# Altium footprint library Misc.SMD.PcbLib: 88 footprints (part 3 of 6)
Each footprint in its own frame and in the unit in brackets; x right, y up, seen from the top. Pads: shape width x height; smd on the part's side, far side on the other; paste and mask are expansions set on the pad; w line width, h text height; cw(c..) or ccw(c..) is an arc to the next point about the centre after c.
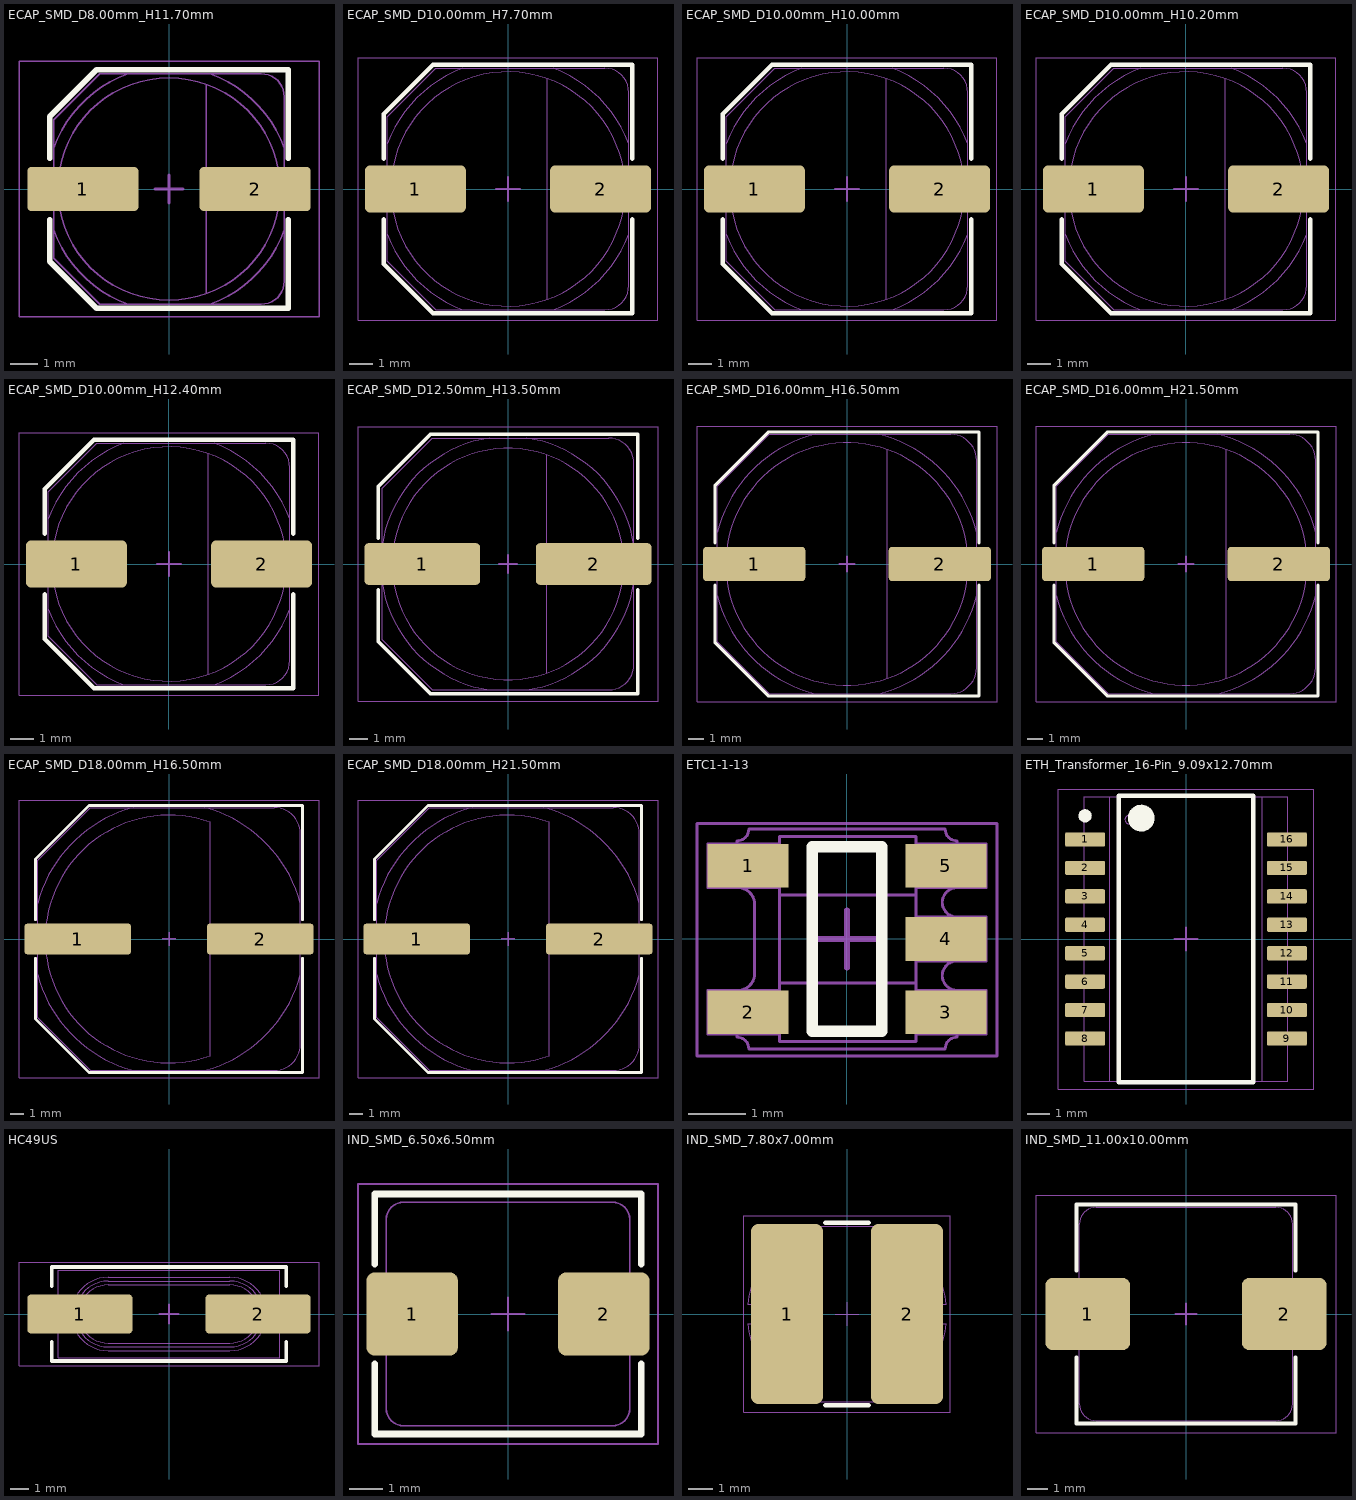
[diagram p2: the footprints below, top view; thin cyan lines are the x and y axes]

## ECAP_SMD_D8.00mm_H11.70mm [mm] "SMD Electrolytic Capacitor, 8.00mm Diameter, 11.70mm Height"
height 11.7
pads (2):
  rrect20% 4x1.6 smd: 1(-3.1,0) 2(3.1,0)
Top Overlay:
  lines w0.2: -4.3,-1.1 -4.3,-2.6 -2.6,-4.3 4.3,-4.3 4.3,-1.1 ; -4.3,1.1 -4.3,2.6 -2.6,4.3 4.3,4.3 4.3,1.1
Mechanical 1:
  circle w0.05: c0,0 r4
  lines w0.05: -4.15,-1.462 ccw(c0,0) -1.462,-4.15 ; -4.15,-0.475 -4.45,-0.475 -4.45,0.475 -4.15,0.475 ; -4.15,1.462 cw(c0,0) -1.462,4.15 ; 1.333,-3.771 1.333,-3.344 1.333,3.344 1.333,3.771 ; 1.462,-4.15 ccw(c0,0) 4.15,-1.462 ; 1.462,4.15 cw(c0,0) 4.15,1.462 ; 4.15,-0.475 4.45,-0.475 4.45,0.475 4.15,0.475 ; -4.15,-2.49 -2.49,-4.15 3.32,-4.15 ccw(c3.32,-3.32) 4.15,-3.32 4.15,3.32 ccw(c3.32,3.32) 3.32,4.15 -2.49,4.15 -4.15,2.49 -4.15,-2.49
Mechanical 15:
  lines w0.05: -5.4,-4.6 5.4,-4.6 5.4,4.6 -5.4,4.6 -5.4,-4.6
  lines w0.1: -0.5,0 0.5,0 ; 0,-0.5 0,0.5
3D body "CP_SMD_Radial_D8.00mm_H11.70mm.STEP": height 11.7, standoff 0, extent -4.45,-4.15 4.45,4.15

## ECAP_SMD_D10.00mm_H7.70mm [mm] "SMD Electrolytic Capacitor, 10.00mm Diameter, 7.70mm Height"
height 7.7
pads (2):
  rrect20% 4.3x2 smd: 1(-3.95,0) 2(3.95,0)
Top Overlay:
  lines w0.2: -5.3,-1.3 -5.3,-3.2 -3.2,-5.3 5.3,-5.3 5.3,-1.3 ; -5.3,1.3 -5.3,3.2 -3.2,5.3 5.3,5.3 5.3,1.3
Mechanical 1:
  circle w0.05: c0,0 r5
  lines w0.05: -5.15,-1.931 ccw(c0,0) -1.931,-5.15 ; -5.15,-0.475 -5.45,-0.475 -5.45,0.475 -5.15,0.475 ; -5.15,1.931 cw(c0,0) -1.931,5.15 ; 1.667,-4.714 1.667,-4.18 1.667,4.18 1.667,4.714 ; 1.931,-5.15 ccw(c0,0) 5.15,-1.931 ; 1.931,5.15 cw(c0,0) 5.15,1.931 ; 5.15,-0.475 5.45,-0.475 5.45,0.475 5.15,0.475 ; -5.15,-3.09 -5.15,3.09 -3.09,5.15 4.12,5.15 cw(c4.12,4.12) 5.15,4.12 5.15,-4.12 cw(c4.12,-4.12) 4.12,-5.15 -3.09,-5.15 -5.15,-3.09
Mechanical 15:
  lines w0.05: -6.4,-5.6 6.4,-5.6 6.4,5.6 -6.4,5.6 -6.4,-5.6
  lines w0.1: -0.5,0 0.5,0 ; 0,-0.5 0,0.5
3D body "CP_SMD_Radial_D10.00mm_H7.70mm.STEP": height 7.7, standoff 0, extent -5.45,-5.15 5.45,5.15

## ECAP_SMD_D10.00mm_H10.00mm [mm] "SMD Electrolytic Capacitor, 10.00mm Diameter, 10.00mm Height"
height 10
pads (2):
  rrect20% 4.3x2 smd: 1(-3.95,0) 2(3.95,0)
Top Overlay:
  lines w0.2: -5.3,-1.3 -5.3,-3.2 -3.2,-5.3 5.3,-5.3 5.3,-1.3 ; -5.3,1.3 -5.3,3.2 -3.2,5.3 5.3,5.3 5.3,1.3
Mechanical 1:
  circle w0.05: c0,0 r5
  lines w0.05: -5.15,-1.931 ccw(c0,0) -1.931,-5.15 ; -5.15,-0.475 -5.45,-0.475 -5.45,0.475 -5.15,0.475 ; -5.15,1.931 cw(c0,0) -1.931,5.15 ; 1.667,-4.714 1.667,-4.18 1.667,4.18 1.667,4.714 ; 1.931,-5.15 ccw(c0,0) 5.15,-1.931 ; 1.931,5.15 cw(c0,0) 5.15,1.931 ; 5.15,-0.475 5.45,-0.475 5.45,0.475 5.15,0.475 ; -5.15,-3.09 -5.15,3.09 -3.09,5.15 4.12,5.15 cw(c4.12,4.12) 5.15,4.12 5.15,-4.12 cw(c4.12,-4.12) 4.12,-5.15 -3.09,-5.15 -5.15,-3.09
Mechanical 15:
  lines w0.05: -6.4,-5.6 6.4,-5.6 6.4,5.6 -6.4,5.6 -6.4,-5.6
  lines w0.1: -0.5,0 0.5,0 ; 0,-0.5 0,0.5
3D body "CP_SMD_Radial_D10.00mm_H10.00mm.STEP": height 10, standoff 0, extent -5.45,-5.15 5.45,5.15

## ECAP_SMD_D10.00mm_H10.20mm [mm] "SMD Electrolytic Capacitor, 10.00mm Diameter, 10.20mm Height"
height 10.2
pads (2):
  rrect20% 4.3x2 smd: 1(-3.95,0) 2(3.95,0)
Top Overlay:
  lines w0.2: -5.3,-1.3 -5.3,-3.2 -3.2,-5.3 5.3,-5.3 5.3,-1.3 ; -5.3,1.3 -5.3,3.2 -3.2,5.3 5.3,5.3 5.3,1.3
Mechanical 1:
  circle w0.05: c0,0 r5
  lines w0.05: -5.15,-1.931 ccw(c0,0) -1.931,-5.15 ; -5.15,-0.475 -5.45,-0.475 -5.45,0.475 -5.15,0.475 ; -5.15,1.931 cw(c0,0) -1.931,5.15 ; 1.667,-4.714 1.667,-4.18 1.667,4.18 1.667,4.714 ; 1.931,-5.15 ccw(c0,0) 5.15,-1.931 ; 1.931,5.15 cw(c0,0) 5.15,1.931 ; 5.15,-0.475 5.45,-0.475 5.45,0.475 5.15,0.475 ; -5.15,-3.09 -3.09,-5.15 4.12,-5.15 ccw(c4.12,-4.12) 5.15,-4.12 5.15,4.12 ccw(c4.12,4.12) 4.12,5.15 -3.09,5.15 -5.15,3.09 -5.15,-3.09
Mechanical 15:
  lines w0.05: -6.4,-5.6 -6.4,5.6 6.4,5.6 6.4,-5.6 -6.4,-5.6
  lines w0.1: -0.5,0 0.5,0 ; 0,-0.5 0,0.5
3D body "CP_SMD_Radial_D10.00mm_H10.00mm.STEP": height 10, standoff 0, extent -5.45,-5.15 5.45,5.15

## ECAP_SMD_D10.00mm_H12.40mm [mm] "SMD Electrolytic Capacitor, 10.00mm Diameter, 12.40mm Height"
height 12.4
pads (2):
  rrect20% 4.3x2 smd: 1(-3.95,0) 2(3.95,0)
Top Overlay:
  lines w0.2: -5.3,-1.3 -5.3,-3.2 -3.2,-5.3 5.3,-5.3 5.3,-1.3 ; -5.3,1.3 -5.3,3.2 -3.2,5.3 5.3,5.3 5.3,1.3
Mechanical 1:
  circle w0.05: c0,0 r5
  lines w0.05: -5.15,-1.931 ccw(c0,0) -1.931,-5.15 ; -5.15,-0.475 -5.45,-0.475 -5.45,0.475 -5.15,0.475 ; -5.15,1.931 cw(c0,0) -1.931,5.15 ; 1.667,-4.714 1.667,-4.18 1.667,4.18 1.667,4.714 ; 1.931,-5.15 ccw(c0,0) 5.15,-1.931 ; 1.931,5.15 cw(c0,0) 5.15,1.931 ; 5.15,-0.475 5.45,-0.475 5.45,0.475 5.15,0.475 ; -5.15,-3.09 -5.15,3.09 -3.09,5.15 4.12,5.15 cw(c4.12,4.12) 5.15,4.12 5.15,-4.12 cw(c4.12,-4.12) 4.12,-5.15 -3.09,-5.15 -5.15,-3.09
Mechanical 15:
  lines w0.05: -6.4,-5.6 6.4,-5.6 6.4,5.6 -6.4,5.6 -6.4,-5.6
  lines w0.1: -0.5,0 0.5,0 ; 0,-0.5 0,0.5
3D body "CP_SMD_Radial_D10.00mm_H12.40mm.STEP": height 12.4, standoff 0, extent -5.45,-5.15 5.45,5.15

## ECAP_SMD_D12.50mm_H13.50mm [mm] "SMD Electrolytic Capacitor, 12.50mm Diameter, 13.50mm Height"
height 13.5
pads (2):
  rrect20% 6.25x2.25 smd: 1(-4.625,0) 2(4.625,0)
Top Overlay:
  lines w0.2: -7,-1.4 -7,-4.2 -4.2,-7 7,-7 7,-1.4 ; -7,1.4 -7,4.2 -4.2,7 7,7 7,1.4
Mechanical 1:
  circle w0.05: c0,0 r6.25
  lines w0.05: -6.8,-1.013 ccw(c0,0) -1.013,-6.8 ; -6.8,-0.6 -7.1,-0.6 -7.1,0.6 -6.8,0.6 ; -6.8,1.013 cw(c0,0) -1.013,6.8 ; 1.013,-6.8 ccw(c0,0) 6.8,-1.013 ; 1.013,6.8 cw(c0,0) 6.8,1.013 ; 2.083,-5.893 2.083,-5.225 2.083,5.225 2.083,5.893 ; 6.8,-0.6 7.1,-0.6 7.1,0.6 6.8,0.6 ; -6.8,-4.08 -4.08,-6.8 5.44,-6.8 ccw(c5.44,-5.44) 6.8,-5.44 6.8,5.44 ccw(c5.44,5.44) 5.44,6.8 -4.08,6.8 -6.8,4.08 -6.8,-4.08
Mechanical 15:
  lines w0.05: -8.1,-7.4 8.1,-7.4 8.1,7.4 -8.1,7.4 -8.1,-7.4
  lines w0.1: -0.5,0 0.5,0 ; 0,-0.5 0,0.5
3D body "CP_SMD_Radial_D12.50mm_H13.50mm.STEP": height 13.5, standoff 0, extent -7.1,-6.8 7.1,6.8

## ECAP_SMD_D16.00mm_H16.50mm [mm] "SMD Electrolytic Capacitor, 16.00mm Diameter, 16.50mm Height"
height 16.5
pads (2):
  rrect20% 6.75x2.25 smd: 1(-6.125,0) 2(6.125,0)
Top Overlay:
  lines w0.2: -8.7,-1.4 -8.7,-5.2 -5.2,-8.7 8.7,-8.7 8.7,-1.4 ; -8.7,1.4 -8.7,5.2 -5.2,8.7 8.7,8.7 8.7,1.4
Mechanical 1:
  circle w0.05: c0,0 r8
  lines w0.05: -8.55,-2.083 ccw(c0,0) -2.083,-8.55 ; -8.55,-0.6 -8.85,-0.6 -8.85,0.6 -8.55,0.6 ; -8.55,2.083 cw(c0,0) -2.083,8.55 ; 2.083,-8.55 ccw(c0,0) 8.55,-2.083 ; 2.083,8.55 cw(c0,0) 8.55,2.083 ; 2.667,-7.542 2.667,-6.688 2.667,6.688 2.667,7.542 ; 8.55,-0.6 8.85,-0.6 8.85,0.6 8.55,0.6 ; -8.55,-5.13 -5.13,-8.55 6.84,-8.55 ccw(c6.84,-6.84) 8.55,-6.84 8.55,6.84 ccw(c6.84,6.84) 6.84,8.55 -5.13,8.55 -8.55,5.13 -8.55,-5.13
Mechanical 15:
  lines w0.05: -9.9,-9.1 9.9,-9.1 9.9,9.1 -9.9,9.1 -9.9,-9.1
  lines w0.1: -0.5,0 0.5,0 ; 0,-0.5 0,0.5
3D body "CP_SMD_Radial_D16.00mm_H16.50mm.STEP": height 16.5, standoff 0, extent -8.85,-8.55 8.85,8.55

## ECAP_SMD_D16.00mm_H21.50mm [mm] "SMD Electrolytic Capacitor, 16.00mm Diameter, 21.50mm Height"
height 21.5
pads (2):
  rrect20% 6.75x2.25 smd: 1(-6.125,0) 2(6.125,0)
Top Overlay:
  lines w0.2: -8.7,-1.4 -8.7,-5.2 -5.2,-8.7 8.7,-8.7 8.7,-1.4 ; -8.7,1.4 -8.7,5.2 -5.2,8.7 8.7,8.7 8.7,1.4
Mechanical 1:
  circle w0.05: c0,0 r8
  lines w0.05: -8.55,-2.083 ccw(c0,0) -2.083,-8.55 ; -8.55,-0.6 -8.85,-0.6 -8.85,0.6 -8.55,0.6 ; -8.55,2.083 cw(c0,0) -2.083,8.55 ; 2.083,-8.55 ccw(c0,0) 8.55,-2.083 ; 2.083,8.55 cw(c0,0) 8.55,2.083 ; 2.667,-7.542 2.667,-6.688 2.667,6.688 2.667,7.542 ; 8.55,-0.6 8.85,-0.6 8.85,0.6 8.55,0.6 ; -8.55,-5.13 -8.55,5.13 -5.13,8.55 6.84,8.55 cw(c6.84,6.84) 8.55,6.84 8.55,-6.84 cw(c6.84,-6.84) 6.84,-8.55 -5.13,-8.55 -8.55,-5.13
Mechanical 15:
  lines w0.05: -9.9,-9.1 -9.9,9.1 9.9,9.1 9.9,-9.1 -9.9,-9.1
  lines w0.1: -0.5,0 0.5,0 ; 0,-0.5 0,0.5
3D body "CP_SMD_Radial_D16.00mm_H21.50mm.STEP": height 21.5, standoff 0, extent -8.85,-8.55 8.85,8.55

## ECAP_SMD_D18.00mm_H16.50mm [mm] "SMD Electrolytic Capacitor, 18.00mm Diameter, 16.50mm Height"
height 16.5
pads (2):
  rrect20% 7.75x2.25 smd: 1(-6.625,0) 2(6.625,0)
Top Overlay:
  lines w0.2: -9.7,-1.4 -9.7,-5.8 -5.8,-9.7 9.7,-9.7 9.7,-1.4 ; -9.7,1.4 -9.7,5.8 -5.8,9.7 9.7,9.7 9.7,1.4
Mechanical 1:
  lines w0.05: -9.55,-2.609 ccw(c0,0) -2.609,-9.55 ; -9.55,-0.6 -9.85,-0.6 -9.85,0.6 -9.55,0.6 ; -9.55,2.609 cw(c0,0) -2.609,9.55 ; 2.609,-9.55 ccw(c0,0) 9.55,-2.609 ; 2.609,9.55 cw(c0,0) 9.55,2.609 ; 9.55,-0.6 9.85,-0.6 9.85,0.6 9.55,0.6 ; -9.55,-5.73 -5.73,-9.55 7.64,-9.55 ccw(c7.64,-7.64) 9.55,-7.64 9.55,7.64 ccw(c7.64,7.64) 7.64,9.55 -5.73,9.55 -9.55,5.73 -9.55,-5.73 ; 3,-8.485 cw(c0,0) 3,8.485 3,7.524 3,-7.524 3,-8.485
Mechanical 15:
  lines w0.05: -10.9,-10.1 -10.9,10.1 10.9,10.1 10.9,-10.1 -10.9,-10.1
  lines w0.1: -0.5,0 0.5,0 ; 0,-0.5 0,0.5
3D body "CP_SMD_Radial_D18.00mm_H16.50mm.STEP": height 16.5, standoff 0, extent -9.85,-9.55 9.85,9.55

## ECAP_SMD_D18.00mm_H21.50mm [mm] "SMD Electrolytic Capacitor, 18.00mm Diameter, 21.50mm Height"
height 21.5
pads (2):
  rrect20% 7.75x2.25 smd: 1(-6.625,0) 2(6.625,0)
Top Overlay:
  lines w0.2: -9.7,-1.4 -9.7,-5.8 -5.8,-9.7 9.7,-9.7 9.7,-1.4 ; -9.7,1.4 -9.7,5.8 -5.8,9.7 9.7,9.7 9.7,1.4
Mechanical 1:
  lines w0.05: -9.55,-2.609 ccw(c0,0) -2.609,-9.55 ; -9.55,-0.6 -9.85,-0.6 -9.85,0.6 -9.55,0.6 ; -9.55,2.609 cw(c0,0) -2.609,9.55 ; 2.609,-9.55 ccw(c0,0) 9.55,-2.609 ; 2.609,9.55 cw(c0,0) 9.55,2.609 ; 9.55,-0.6 9.85,-0.6 9.85,0.6 9.55,0.6 ; -9.55,-5.73 -5.73,-9.55 7.64,-9.55 ccw(c7.64,-7.64) 9.55,-7.64 9.55,7.64 ccw(c7.64,7.64) 7.64,9.55 -5.73,9.55 -9.55,5.73 -9.55,-5.73 ; 3,-8.485 cw(c0,0) 3,8.485 3,7.524 3,-7.524 3,-8.485
Mechanical 15:
  lines w0.05: -10.9,-10.1 -10.9,10.1 10.9,10.1 10.9,-10.1 -10.9,-10.1
  lines w0.1: -0.5,0 0.5,0 ; 0,-0.5 0,0.5
3D body "CP_SMD_Radial_D18.00mm_H21.50mm.STEP": height 21.5, standoff 0, extent -9.85,-9.55 9.85,9.55

## ETC1-1-13 [mm] "ETC1 Series Package, 3.94x3.83mm, 5 Leads"
height 2.75
pads (5):
  rect 1.4x0.76 smd: 1(-1.715,1.27) 2(-1.715,-1.27) 3(1.715,-1.27) 4(1.715,0) 5(1.715,1.27)
Top Overlay:
  lines w0.2: -0.6,-1.6 -0.6,1.6 0.6,1.6 0.6,-1.6 -0.6,-1.6
Mechanical 1:
  lines w0.05: -2.081,-1.651 -2.081,-0.889 ; -2.081,0.889 -2.081,1.651 ; -1.954,-1.651 -1.954,-0.889 ; -1.954,0.889 -1.954,1.651 ; -1.905,-1.651 -2.413,-1.651 -2.413,-0.889 -1.168,-0.889 ; -1.905,1.651 -2.413,1.651 -2.413,0.889 -1.168,0.889 ; -1.88,-0.889 ccw(c-1.893,-0.594) -1.6,-0.635 -1.6,0.635 ccw(c-1.893,0.594) -1.88,0.889 ; -1.809,-1.651 -1.809,-0.889 ; -1.809,0.889 -1.809,1.651 ; -1.168,-1.651 -1.904,-1.651 -1.904,-0.889 -1.905,-0.889 -1.905,-1.702 cw(c-1.905,-1.905) -1.702,-1.905 1.702,-1.905 cw(c1.905,-1.905) 1.905,-1.702 1.905,-0.889 ; -1.168,-0.762 1.194,-0.762 ; -1.168,0.762 1.194,0.762 ; -1.168,1.651 -1.904,1.651 -1.904,0.889 -1.905,0.889 -1.905,1.702 ccw(c-1.905,1.905) -1.702,1.905 1.702,1.905 ccw(c1.905,1.905) 1.905,1.702 1.905,0.889 ; 1.194,-1.651 1.904,-1.651 1.904,-0.889 cw(c1.905,-0.635) 1.904,-0.381 1.904,0.381 cw(c1.905,0.635) 1.904,0.889 1.904,1.651 1.194,1.651 ; 1.194,-0.889 2.413,-0.889 2.413,-1.651 1.905,-1.651 ; 1.194,-0.381 2.413,-0.381 2.413,0.381 1.194,0.381 ; 1.194,0.889 2.413,0.889 2.413,1.651 1.905,1.651 ; 1.809,-1.651 1.809,-0.889 ; 1.809,-0.381 1.809,0.381 ; 1.809,0.889 1.809,1.651 ; 1.905,-0.381 1.905,0.381 ; 1.954,-1.651 1.954,-0.889 ; 1.954,-0.381 1.954,0.381 ; 1.954,0.889 1.954,1.651 ; 2.081,-1.651 2.081,-0.889 ; 2.081,-0.381 2.081,0.381 ; 2.081,0.889 2.081,1.651 ; -1.168,-1.778 -1.168,1.778 1.194,1.778 1.194,-1.778 -1.168,-1.778
Mechanical 15:
  lines w0.05: -2.6,-2.025 -2.6,2 2.6,2 2.6,-2.025 -2.6,-2.025
  lines w0.1: -0.5,0 0.5,0 ; 0,-0.5 0,0.5
3D body "ETC1-1-13.step": height 2.6, standoff 0, extent -2.413,-1.905 2.413,1.905

## ETH_Transformer_16-Pin_9.09x12.70mm [mil] "Ethenet Line Transformer, 9.09x12.70mm Package, 1.27mm Pitch, 16-Pin"
height 235.83
pads (17):
  rrect20% 70x25 smd: 1(-177.5,175) 2(-177.5,125) 3(-177.5,75) 4(-177.5,25) 5(-177.5,-25) 6(-177.5,-75) 7(-177.5,-125) 8(-177.5,-175) 9(177.5,-175) 10(177.5,-125) 11(177.5,-75) 12(177.5,-25) 13(177.5,25) 14(177.5,75) 15(177.5,125) 16(177.5,175)
  round 23.62 on Top Overlay: ""(-177.5,216.54)
Top Overlay:
  circle w7.87: c-78.74,212.6 r19.69
  region: -78.74,192.91 -82.66,192.91 -89.89,195.91 -95.43,201.45 -98.43,208.68 -98.43,212.6 -98.43,216.51 -95.43,223.75 -89.89,229.29 -82.66,232.28 -78.74,232.28 -74.82,232.28 -67.59,229.29 -62.05,223.75 -59.06,216.51 -59.06,212.6 -59.06,208.68 -62.05,201.45 -67.59,195.91 -74.82,192.91
  lines w7.87: -118.11,-251.97 118.11,-251.97 118.11,251.97 -118.11,251.97 -118.11,-251.97
Mechanical 1:
  circle w1.97: c-100,210 r7.5
  lines w1.97: -179,-181 -190,-181 -190,-169 -179,-169 ; -179,-131 -190,-131 -190,-119 -179,-119 ; -179,-81 -190,-81 -190,-69 -179,-69 ; -179,-31 -190,-31 -190,-19 -179,-19 ; -179,19 -190,19 -190,31 -179,31 ; -179,69 -190,69 -190,81 -179,81 ; -179,119 -190,119 -190,131 -179,131 ; -179,169 -190,169 -190,181 -179,181 ; -134,-250 -134,250 ; 134,-250 134,250 ; 179,-181 190,-181 190,-169 179,-169 ; 179,-131 190,-131 190,-119 179,-119 ; 179,-81 190,-81 190,-69 179,-69 ; 179,-31 190,-31 190,-19 179,-19 ; 179,19 190,19 190,31 179,31 ; 179,69 190,69 190,81 179,81 ; 179,119 190,119 190,131 179,131 ; 179,169 190,169 190,181 179,181 ; -179,-250 179,-250 179,250 -179,250 -179,-250
Mechanical 15:
  lines w1.97: -224.41,-263.78 -224.41,263.78 224.41,263.78 224.41,-263.78 -224.41,-263.78
  lines w3.94: -19.68,0 19.68,0 ; 0,-19.68 0,19.68
3D body "ETH_Transformer_16-Pin_9.09x12.70mm.STEP": height 236, standoff 0, extent -190,-250 190,250

## HC49US [mm] "HC49 Crystal Package, 2-Lead. 12.70x4.70mm"
height 3.3
pads (2):
  rrect20% 5.6x2.1 smd: 1(-4.75,0) 2(4.75,0)
Top Overlay:
  lines w0.2: -6.25,-1.5 -6.25,-2.5 6.25,-2.5 6.25,-1.5 ; -6.25,1.5 -6.25,2.5 6.25,2.5 6.25,1.5
Mechanical 1:
  lines w0.05: -5.9,-0.5 -6.25,-0.5 -6.25,0.5 -5.9,0.5 ; 5.9,-0.5 6.25,-0.5 6.25,0.5 5.9,0.5 ; -5.9,-2.325 -5.9,2.325 5.9,2.325 5.9,-2.325 -5.9,-2.325 ; -3.25,-1.95 cw(c-3.25,0) -3.25,1.95 3.25,1.95 cw(c3.25,0) 3.25,-1.95 -3.25,-1.95 ; -3.25,-1.75 cw(c-3.25,0) -3.25,1.75 3.25,1.75 cw(c3.25,0) 3.25,-1.75 -3.25,-1.75 ; -3.25,-1.55 cw(c-3.25,0) -3.25,1.55 3.25,1.55 cw(c3.25,0) 3.25,-1.55 -3.25,-1.55
Mechanical 15:
  lines w0.05: -8,-2.75 8,-2.75 8,2.75 -8,2.75 -8,-2.75
  lines w0.1: -0.5,0 0.5,0 ; 0,-0.5 0,0.5
3D body "Crystal_SMD_HC49-SD.step": height 4, standoff 0, extent -6.25,-2.325 6.25,2.325

## IND_SMD_6.50x6.50mm [mm] "SMD Inductor, 6.50x6.50mm Package, 2-Lead"
height 3.85
pads (2):
  rrect20% 2.75x2.5 smd: 1(-2.875,0) 2(2.875,0)
Top Overlay:
  lines w0.2: -4,-1.5 -4,-3.6 4,-3.6 4,-1.5 ; -4,1.5 -4,3.6 4,3.6 4,1.5
Mechanical 1:
  lines w0.05: -3.65,-0.75 -3.8,-0.75 -3.8,0.75 -3.65,0.75 ; 3.65,-0.75 3.8,-0.75 3.8,0.75 3.65,0.75 ; -3.65,-2.85 ccw(c-3.15,-2.85) -3.15,-3.35 3.15,-3.35 ccw(c3.15,-2.85) 3.65,-2.85 3.65,2.85 ccw(c3.15,2.85) 3.15,3.35 -3.15,3.35 ccw(c-3.15,2.85) -3.65,2.85 -3.65,-2.85
Mechanical 15:
  lines w0.05: -0.5,0 0.5,0 ; 0,-0.5 0,0.5 ; -4.5,-3.9 4.5,-3.9 4.5,3.9 -4.5,3.9 -4.5,-3.9
3D body "tck_112_3d_drawing.stp": height 4, standoff 0, extent -3.8,-3.35 3.8,3.35

## IND_SMD_7.80x7.00mm [mm] "SMD Inductor, 7.80x7.00mm Package, 2-Lead"
height 5
pads (2):
  rrect20% 3x7.5 smd: 1(-2.5,0) 2(2.5,0)
Top Overlay:
  lines w0.2: -0.9,-3.8 0.9,-3.8 ; -0.9,3.8 0.9,3.8
Mechanical 1:
  lines w0.05: -4.131,-0.4 ccw(c0,0) -1.975,-3.65 1.975,-3.65 ccw(c0,0) 4.131,-0.4 3.931,-0.4 cw(c3.931,0) 3.931,0.4 4.131,0.4 ccw(c0,0) 1.975,3.65 -1.975,3.65 ccw(c0,0) -4.131,0.4 -3.931,0.4 cw(c-3.931,0) -3.931,-0.4 -4.131,-0.4
Mechanical 15:
  lines w0.05: -0.5,0 0.5,0 ; 0,-0.5 0,0.5 ; -4.3,-4.1 -4.3,4.1 4.3,4.1 4.3,-4.1 -4.3,-4.1
3D body "tck_070_3d_drawing.stp": height 5.5, standoff 0, extent -4.131,-3.65 4.131,3.65

## IND_SMD_11.00x10.00mm [mm] "SMD Inductor, 11.00x10.00mm Package, 2-Lead"
height 3.8
pads (2):
  rrect20% 4.1x3.5 smd: 1(-4.75,0) 2(4.75,0)
Top Overlay:
  lines w0.2: -5.3,-2.1 -5.3,-5.3 5.3,-5.3 5.3,-2.1 ; -5.3,2.1 -5.3,5.3 5.3,5.3 5.3,2.1
Mechanical 1:
  lines w0.05: -5.15,-1.65 -5.5,-1.65 -5.5,1.65 -5.15,1.65 ; 5.15,-1.65 5.5,-1.65 5.5,1.65 5.15,1.65 ; -5.15,-4.35 ccw(c-4.35,-4.35) -4.35,-5.15 4.35,-5.15 ccw(c4.35,-4.35) 5.15,-4.35 5.15,4.35 ccw(c4.35,4.35) 4.35,5.15 -4.35,5.15 ccw(c-4.35,4.35) -5.15,4.35 -5.15,-4.35
Mechanical 15:
  lines w0.05: -7.25,-5.75 7.25,-5.75 7.25,5.75 -7.25,5.75 -7.25,-5.75
  lines w0.1: -0.5,0 0.5,0 ; 0,-0.5 0,0.5
3D body "IND_SMD_11.00x10.00mm.STEP": height 4, standoff 0, extent -5.5,-5.15 5.5,5.15